# EAGLE library part CON_26 (library 0SBLib)
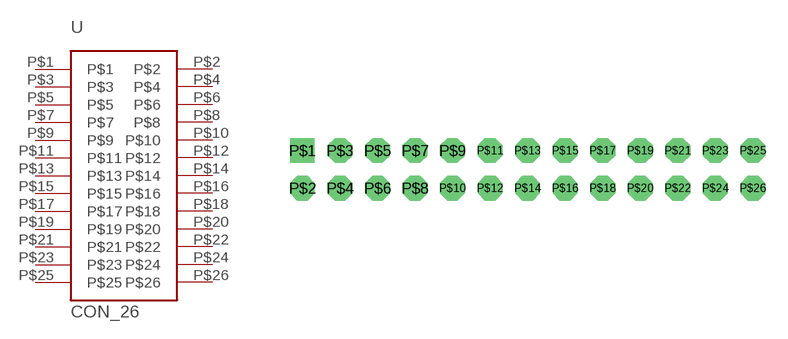
[diagram p35: symbol with the pads of HE10-26_90; footprint HE10-26_90]

Designator prefix -

## CON_26  [HE10-26_90]
P$1  P$1
P$2  P$2
P$3  P$3
P$4  P$4
P$5  P$5
P$6  P$6
P$7  P$7
P$8  P$8
P$9  P$9
P$10  P$10
P$11  P$11
P$12  P$12
P$13  P$13
P$14  P$14
P$15  P$15
P$16  P$16
P$17  P$17
P$18  P$18
P$19  P$19
P$20  P$20
P$21  P$21
P$22  P$22
P$23  P$23
P$24  P$24
P$25  P$25
P$26  P$26

## Footprint HE10-26_90 (pad centres in mm)
drill 1.1 pad 1.676 square: P$1 -15.24,1.27
drill 1.1 pad 1.676 octagon: P$2 -15.24,-1.27; P$3 -12.7,1.27; P$4 -12.7,-1.27; P$5 -10.16,1.27; P$6 -10.16,-1.27; P$7 -7.62,1.27; P$8 -7.62,-1.27; P$9 -5.08,1.27; P$10 -5.08,-1.27; P$11 -2.54,1.27; P$12 -2.54,-1.27; P$13 0,1.27; P$14 0,-1.27; P$15 2.54,1.27; P$16 2.54,-1.27; P$17 5.08,1.27; P$18 5.08,-1.27; P$19 7.62,1.27; P$20 7.62,-1.27; P$21 10.16,1.27; P$22 10.16,-1.27; P$23 12.7,1.27; P$24 12.7,-1.27; P$25 15.24,1.27; P$26 15.24,-1.27